# Altium schematic symbol library Schlib1.SchLib: 1 symbol
Pins are listed as number, name and electrical type; pins without a type are passive.

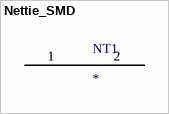
[diagram p0: symbol Nettie_SMD]

## Nettie_SMD
designator NT1  (net tie, no BOM)
footprint Nettie_SMD
pins: 1, 2